# Altium schematic symbol library 9774050243.SchLib: 1 symbol
Pins are listed as number, name and electrical type; pins without a type are passive.

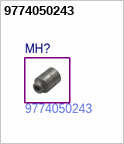
[diagram p0: symbol 9774050243]

## 9774050243
designator MH?  Manufacture Part Number: 9774050243  (hidden comment: *)